# Altium integrated library Altium_Diode.IntLib: 16 symbols
Pins are listed as number, name and electrical type; pins without a type are passive.

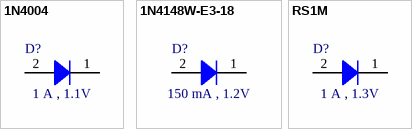
[diagram p0: symbols 1N4004 to RS1M]

## 1N4004
designator D?, comment 1 A , 1.1V
Rectifiers 1N4004 1A 400V; Manufacturer: Rectron; Manufacturer Part Number: FM4004-W; Max Surge Current: 30 A; Recovery Time: 2.5 us; Reverse Current: 500 nA; Type: Rectifiers; Supplier 1 URL: https://www.mouser.vn/ProductDetail/Rectron/FM4004-W?qs=Iw9Ubr57Px3IHNH1bE4l9w%3D%3D; Supplier 2 URL: https://www.digikey.com/en/products/detail/rectron-usa/fm4004-w/12337488; Supplier 3 URL: https://www.thegioiic.com/1n4004-m4-diode-chinh-luu-1a-400v; Value: 1 A , 1.1V; Forward Current: 1 A; Forward Voltage: 1.1 V; Maximum Diode Capacitance: N/A; Peak Reverse Voltage: 400 V; Power Dissipation: N/A; Supplier 1: Mouser; Supplier 1 Part Number: 583-FM4004; Supplier 2: Digi-Key; Supplier 2 Part Number: 2516-FM4004-WTR-ND; Supplier 3: thegioiic; Supplier 3 Part Number: 1N4004-M4; Mount: SMD/SMT; Operating Temperature Max: + 85 C; Operating Temperature Min: - 40 C; Package / Case: SMX; ComponentLink1Description: Datasheet; ComponentLink1URL: https://www.mouser.vn/datasheet/2/345/fm4001_fm4007-1113844.pdf; Packaging: Tape and Reel; LCSC Part #: C727080
footprint SMA (DO-214AC) (Molded Diode, 2-Leads, Body 4.25x2.67mm, IPC Medium Density)
pins: 1 K, 2 A

## 1N4148W-E3-18
designator D?, comment 150 mA , 1.2V
Diodes - General Purpose, Power, Switching 100 Volt 500mA 4ns; Manufacturer: Vishay Semiconductors; Manufacturer Part Number: 1N4148W-E3-18; Type: Rectifiers; Forward Current: 150 mA; Maximum Diode Capacitance: 4 pF; Max Surge Current: 2 A; Peak Reverse Voltage: 100 V; Power Dissipation: 350 mW; Reverse Current: 5 uA; Supplier 1 URL: https://www.mouser.vn/ProductDetail/Vishay-Semiconductors/1N4148W-E3-18?qs=bTzheeSci6Q3YaBSBujcdg%3D%3D; Supplier 2 URL: https://www.digikey.com/en/products/detail/vishay-general-semiconductor-diodes-division/1n4148w-e3-18/3104163; Supplier 3 URL: https://www.thegioiic.com/1n4148w-e3-18-diode-gen-purp-75v-150ma-sod123; Value: 150 mA , 1.2V; Forward Voltage: 1.2 V; Recovery Time: 4 ns; Supplier 1: Mouser; Supplier 1 Part Number: 78-1N4148W-E3-18; Supplier 2: Digi-Key; Supplier 2 Part Number: 1N4148W-E3-18TR-ND; Supplier 3: thegioiic; Supplier 3 Part Number: 1N4148W-E3-18; Mount: SMD/SMT; Operating Temperature Max: + 85 C; Operating Temperature Min: - 40 C; Package / Case: SOD-123; ComponentLink1Description: Datasheet; ComponentLink1URL: https://www.vishay.com/doc?85748; Packaging: Tape and Reel; LCSC Part #: N/A
footprint SOD-123 (SOIC, 2-Leads, Body 1.55x2.70mm, Pitch 1.27mm, IPC Medium Density)
pins: 1 K, 2 A

## RS1M
designator D?, comment 1 A , 1.3V
Rectifiers 1000V 1a Fast Rect SMa; Manufacturer: onsemi; Manufacturer Part Number: RS1M; Max Surge Current: 30 A; Peak Reverse Voltage: 1 kV; Power Dissipation: 1.19 W; Recovery Time: 500 ns; Reverse Current: 5 uA; Type: Rectifiers; Supplier 1 URL: https://www.mouser.vn/ProductDetail/onsemi-Fairchild/RS1M?qs=e%2FRqmsgwm9icSRWI%2F467wA%3D%3D; Supplier 2 URL: https://www.digikey.com/en/products/detail/onsemi/rs1m/1048919; Supplier 3 URL: https://www.thegioiic.com/fr107-rs1m-sma-diode-chinh-luu-1a-1kv; Value: 1 A , 1.3V; Forward Current: 1 A; Forward Voltage: 1.3 V; Maximum Diode Capacitance: N/A; Supplier 1: Mouser; Supplier 1 Part Number: 512-RS1M; Supplier 2: Digi-Key; Supplier 2 Part Number: RS1MFSTR-ND; Supplier 3: thegioiic; Supplier 3 Part Number: FR107 RS1M; Mount: SMD/SMT; Operating Temperature Max: + 85 C; Operating Temperature Min: - 40 C; Package / Case: DO-214AC; ComponentLink1Description: Datasheet; ComponentLink1URL: https://www.mouser.vn/datasheet/2/308/1/RS1M_D-2320127.pdf; Packaging: Tape and Reel; LCSC Part #: N/A
footprint SMA (DO-214AC) (Molded Diode, 2-Leads, Body 4.25x2.67mm, IPC Medium Density)
pins: 1 K, 2 A


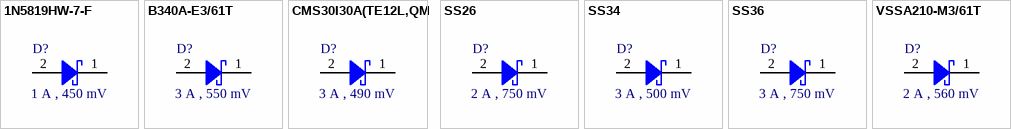
[diagram p1: symbols 1N5819HW-7-F to VSSA210-M3/61T]

## 1N5819HW-7-F
designator D?, comment 1 A , 450 mV
Schottky Diodes & Rectifiers 2.0 Amp 60 Volt 40 Amp IFSM; Manufacturer Part Number: 1N5819HW-7-F; Forward Current: 1 A; Forward Voltage: 450 mV; Max Surge Current: 25 A; Peak Reverse Voltage: 40 V; Power Dissipation: 450 mW; Reverse Current: 1 mA; Type: Schottky; Supplier 1 URL: https://www.mouser.com/ProductDetail/Diodes-Incorporated/1N5819HW-7-F?qs=NQ47qNm99eDyWTEd07miYA%3D%3D; Supplier 2 URL: https://www.digikey.com/en/products/detail/diodes-incorporated/1n5819hw-7-f/814970; Supplier 3 URL: N/A; Value: 1 A , 450 mV; Manufacturer: DIODES; Maximum Diode Capacitance: N/A; Recovery Time: N/A; Supplier 1: Mouser; Supplier 1 Part Number: 621-1N5819HW-F; Supplier 2: Digi-Key; Supplier 2 Part Number: 1N5819HW-FDITR-ND; Supplier 3: thegioiic; Supplier 3 Part Number: N/A; Mount: SMD/SMT; Operating Temperature Max: + 125 C; Operating Temperature Min: - 65 C; Package / Case: SOD-123-2; Packaging: Tape and Reel; ComponentLink1Description: Datasheet; ComponentLink1URL: https://www.vishay.com/doc?89055; LCSC Part #: C82544
footprint SOD-123 (SOIC, 2-Leads, Body 1.55x2.70mm, Pitch 1.27mm, IPC Medium Density)
pins: 1 K, 2 A

## B340A-E3/61T
designator D?, comment 3 A , 550 mV
Schottky Diodes & Rectifiers 3.0 Amp 40 Volt; Manufacturer: Vishay Semiconductors; Manufacturer Part Number: B340A-E3/61T; Forward Current: 3 A; Forward Voltage: 550 mV; Max Surge Current: 65 A; Peak Reverse Voltage: 40 V; Reverse Current: 500 uA; Type: Schottky; Supplier 1 URL: https://www.mouser.com/ProductDetail/Vishay-General-Semiconductor/B340A-E3-61T?qs=tdXsjSi%2FIMY4I2dGLbnpzg%3D%3D; Supplier 2 URL: https://www.digikey.com/en/products/detail/vishay-general-semiconductor-diodes-division/b340a-e3-61t/2149679; Supplier 3 URL: N/A; Value: 3 A , 550 mV; Maximum Diode Capacitance: N/A; Power Dissipation: N/A; Recovery Time: N/A; Supplier 1: Mouser; Supplier 1 Part Number: 625-BD340A-E3/61T; Supplier 2: Digi-Key; Supplier 2 Part Number: B340A-E3/61TGITR-ND; Supplier 3: thegioiic; Supplier 3 Part Number: N/A; Mount: SMD/SMT; Operating Temperature Max: + 150 C; Operating Temperature Min: - 65 C; Package / Case: SMA (DO-214AC); Packaging: Tape and Reel; ComponentLink1Description: Datasheet; ComponentLink1URL: https://www.vishay.com/docs/88896/b330la.pdf; LCSC Part #: C15570
footprint SMA (DO-214AC) (Molded Diode, 2-Leads, Body 4.25x2.67mm, IPC Medium Density)
pins: 1 K, 2 A

## CMS30I30A(TE12L,QM
designator D?, comment 3 A , 490 mV
Schottky Diodes & Rectifiers 30V Vrrm 3.0A IF 0.49V VFM 30A IFSM; Manufacturer: Toshiba; Manufacturer Part Number: CMS30I30A(TE12L,QM; Forward Current: 3 A; Forward Voltage: 490 mV; Reverse Current: 100 uA; Type: Schottky; Supplier 1 URL: https://www.mouser.vn/ProductDetail/Vishay-General-Semiconductor/SS26S-E3-5AT?qs=tWM4QuTcS4UlRJgxN3V1tg%3D%3D; Supplier 2 URL: N/A; Supplier 3 URL: N/A; Value: 3 A , 490 mV; Maximum Diode Capacitance: N/A; Max Surge Current: 30 A; Peak Reverse Voltage: 30 V; Power Dissipation: N/A; Recovery Time: N/A; Supplier 1: Mouser; Supplier 1 Part Number: 757-CMS30I30ATE12LQM; Supplier 2: Digi-Key; Supplier 2 Part Number: N/A; Supplier 3: thegioiic; Supplier 3 Part Number: N/A; Mount: SMD/SMT; Operating Temperature Max: + 85 C; Operating Temperature Min: - 40 C; Package / Case: SMA (DO-214AC); Packaging: Tape and Reel; ComponentLink1Description: Datasheet; ComponentLink1URL: https://www.vishay.com/doc?89055; LCSC Part #: C2762688
footprint 3-4E1S (SODFL, 2-Leads, Body 2.40x4.70mm, IPC Medium Density)
pins: 1 K, 2 A

## SS26
designator D?, comment 2 A , 750 mV
Schottky Diodes & Rectifiers 2.0 Amp 60 Volt 40 Amp IFSM; Manufacturer: Vishay Semiconductors; Manufacturer Part Number: SS26S-E3/5AT; Forward Current: 2 A; Forward Voltage: 750 mV; Max Surge Current: 40 A; Peak Reverse Voltage: 60 V; Reverse Current: 200 uA; Type: Schottky; Supplier 1 URL: https://www.mouser.vn/ProductDetail/Vishay-General-Semiconductor/SS26S-E3-5AT?qs=tWM4QuTcS4UlRJgxN3V1tg%3D%3D; Supplier 2 URL: https://www.digikey.com/en/products/detail/vishay-general-semiconductor-diodes-division/ss26s-e3-5at/2148827; Supplier 3 URL: https://www.thegioiic.com/ss26-smb-diode-schottky-2a; Value: 2 A , 750 mV; Maximum Diode Capacitance: N/A; Power Dissipation: N/A; Recovery Time: N/A; Supplier 1: Mouser; Supplier 1 Part Number: 625-SS26S-E3/5AT; Supplier 2: Digi-Key; Supplier 2 Part Number: SS26S-E3/5ATGITR-ND; Supplier 3: thegioiic; Supplier 3 Part Number: SS26; Mount: SMD/SMT; Operating Temperature Max: + 85 C; Operating Temperature Min: - 40 C; Package / Case: SMA (DO-214AC); Packaging: Tape and Reel; ComponentLink1Description: Datasheet; ComponentLink1URL: https://www.vishay.com/doc?89055; LCSC Part #: C5350986
footprint SMA (DO-214AC) (Molded Diode, 2-Leads, Body 4.25x2.67mm, IPC Medium Density)
pins: 1 K, 2 A

## SS34
designator D?, comment 3 A , 500 mV
Schottky Diodes & Rectifiers 3.0 Amp 40 Volt; Manufacturer: Vishay Semiconductors; Manufacturer Part Number: SS34-E3/57T; Forward Current: 3 A; Forward Voltage: 500 mV; Max Surge Current: 100 A; Peak Reverse Voltage: 40 V; Reverse Current: 500 uA; Type: Schottky; Supplier 1 URL: https://www.mouser.vn/ProductDetail/Vishay-General-Semiconductor/SS34-E3-57T?qs=x2jpVgRnAtMC3f38kYWnRw%3D%3D; Supplier 2 URL: https://www.digikey.com/en/products/detail/vishay-general-semiconductor-diodes-division/ss34-e3-57t/1091554; Supplier 3 URL: https://www.thegioiic.com/ss34-sma-diode-schottky-3a; Value: 3 A , 500 mV; Maximum Diode Capacitance: N/A; Power Dissipation: N/A; Recovery Time: N/A; Supplier 1: Mouser; Supplier 1 Part Number: 625-SS34-E3; Supplier 2: Digi-Key; Supplier 2 Part Number: SS34-E3/57TGITR-ND; Supplier 3: thegioiic; Supplier 3 Part Number: SS34; Mount: SMD/SMT; Operating Temperature Max: + 85 C; Operating Temperature Min: - 40 C; Package / Case: SMC (DO-214AB); Packaging: Tape and Reel; ComponentLink1Description: Datasheet; ComponentLink1URL: https://www.vishay.com/doc?88751; LCSC Part #: C3008890
footprint SMC (DO-214AB) (Molded Diode, 2-Leads, Body 6.85x5.91mm, IPC Medium Density)
pins: 1 K, 2 A

## SS36
designator D?, comment 3 A , 750 mV
Schottky Diodes & Rectifiers 3.0 Amp 60 Volt; Manufacturer: Vishay Semiconductors; Manufacturer Part Number: SS36-E3/57T; Forward Current: 3 A; Forward Voltage: 750 mV; Max Surge Current: 100 A; Peak Reverse Voltage: 60 V; Reverse Current: 500 uA; Type: Schottky; Supplier 1 URL: https://www.mouser.vn/ProductDetail/Vishay-General-Semiconductor/SS36-E3-57T?qs=x2jpVgRnAtNdHfPfldPWaQ%3D%3D; Supplier 2 URL: https://www.digikey.com/en/products/detail/vishay-general-semiconductor-diodes-division/ss36-e3-57t/1091555; Supplier 3 URL: https://www.thegioiic.com/ss36-sma-diode-schottky-3a; Value: 3 A , 750 mV; Maximum Diode Capacitance: N/A; Power Dissipation: N/A; Recovery Time: N/A; Supplier 1: Mouser; Supplier 1 Part Number: 625-SS36-E3; Supplier 2: Digi-Key; Supplier 2 Part Number: SS36-E3/57TGITR-ND; Supplier 3: thegioiic; Supplier 3 Part Number: SS36; Mount: SMD/SMT; Operating Temperature Max: + 85 C; Operating Temperature Min: - 40 C; Package / Case: SMC (DO-214AB); Packaging: Tape and Reel; ComponentLink1Description: Datasheet; ComponentLink1URL: https://www.vishay.com/doc?88751; LCSC Part #: N/A
footprint SMC (DO-214AB) (Molded Diode, 2-Leads, Body 6.85x5.91mm, IPC Medium Density)
pins: 1 K, 2 A

## VSSA210-M3/61T
designator D?, comment 2 A , 560 mV
Schottky Diodes & Rectifiers 2.0 Amp 100 Volt 60 Amp IFSM; Manufacturer: Vishay Semiconductors; Manufacturer Part Number: VSSA210-M3/61T; Forward Current: 2 A; Forward Voltage: 560 mV; Max Surge Current: 60 A; Peak Reverse Voltage: 100 V; Reverse Current: 200 uA; Type: Schottky; Supplier 1 URL: https://www.mouser.vn/ProductDetail/Vishay-General-Semiconductor/VSSA210-M3-61T?qs=sGAEpiMZZMtbRapU8LlZDxfz4h8DymYv9GXKqyqJb7M%3D; Supplier 2 URL: https://www.digikey.com/en/products/detail/vishay-general-semiconductor-diodes-division/vssa210-m3-61t/4934084; Supplier 3 URL: N/A; Value: 2 A , 560 mV; Maximum Diode Capacitance: N/A; Power Dissipation: N/A; Recovery Time: N/A; Supplier 1: Mouser; Supplier 1 Part Number: 78-VSSA210-M361T; Supplier 2: Digi-Key; Supplier 2 Part Number: VSSA210-M3/61TGITR-ND; Supplier 3: thegioiic; Supplier 3 Part Number: N/A; Mount: SMD/SMT; Operating Temperature Max: + 85 C; Operating Temperature Min: - 40 C; Package / Case: SMA (DO-214AC); Packaging: Tape and Reel; ComponentLink1Description: Datasheet; ComponentLink1URL: https://www.vishay.com/doc?89055; LCSC Part #: C3757345
footprint SMA (DO-214AC) (Molded Diode, 2-Leads, Body 4.25x2.67mm, IPC Medium Density)
pins: 1 K, 2 A


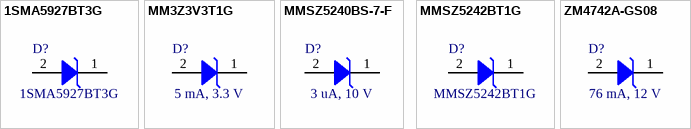
[diagram p2: symbols 1SMA5927BT3G to ZM4742A-GS08]

## 1SMA5927BT3G
designator D?
Zener Diodes 12V 1.5W; Manufacturer: onsemi; Zener Current: 125 mA; Power Dissipation: 500 mW; Reverse Current: 500 nA; Voltage Tolerance: 5 %; Zener Impedance: 30 Ohms; Type: Zener; Supplier 1 URL: https://www.mouser.vn/ProductDetail/onsemi/1SMA5927BT3G?qs=y2kkmE52mdMhTuIaEBFoKA%3D%3D; Supplier 2 URL: N/A; Supplier 3 URL: N/A; Value: 1SMA5927BT3G; Maximum Reverse Leakage Current: 500 nA; Zener Voltage: 12 V; Manufacturer Part Number: 1SMA5927BT3G; Supplier 1: Mouser; Supplier 1 Part Number: 863-1SMA5927BT3G; Supplier 2: Digi-Key; Supplier 2 Part Number: N/A; Supplier 3: thegioiic; Supplier 3 Part Number: N/A; Mount: SMD/SMT; Operating Temperature Max: + 150 C; Operating Temperature Min: - 55 C; Package / Case: SMA; Packaging: Tape and Reel; ComponentLink1Description: Datasheet; ComponentLink1URL: https://www.onsemi.com/PowerSolutions/product.do?id=1SMA5927BT3G; LCSC Part #: C33754
footprint SMA (DO-214AC) (Molded Diode, 2-Leads, Body 4.25x2.67mm, IPC Medium Density)
pins: 1 K, 2 A

## MM3Z3V3T1G
designator D?, comment 5 mA, 3.3 V
Zener Diodes 3.3V 300mW; Manufacturer: onsemi; Manufacturer Part Number: MM3Z3V3T1G; Zener Current: 5 uA; Reverse Current: 5 mA; Voltage Tolerance: 5 %; Zener Impedance: 95 Ohms; Type: Zener; Supplier 1 URL: https://www.mouser.com/ProductDetail/onsemi/MM3Z3V3T1G?qs=HVbQlW5zcXVv6KQ4meaZ3g%3D%3D; Supplier 2 URL: N/A; Supplier 3 URL: N/A; Value: 5 mA, 3.3 V; Power Dissipation: 300 mW; Maximum Reverse Leakage Current: 5 uA; Zener Voltage: 3.3 V; Supplier 1: Mouser; Supplier 1 Part Number: 863-MM3Z3V3T1G; Supplier 2: Digi-Key; Supplier 2 Part Number: N/A; Supplier 3: thegioiic; Supplier 3 Part Number: N/A; Mount: SMD/SMT; Operating Temperature Max: + 150 C; Operating Temperature Min: - 65 C; Package / Case: SOD-323; Packaging: Tape and Reel; ComponentLink1Description: Datasheet; ComponentLink1URL: https://www.vishay.com/doc?85786; LCSC Part #: C75073
footprint SOD-323 (SOIC, 2-Leads, Body 1.25x1.70mm, Pitch 1.27mm, IPC Medium Density)
pins: 1 K, 2 A

## MMSZ5240BS-7-F
designator D?, comment 3 uA, 10 V
Independent 9.5V~10.5V 200mW 10V SOD-323 Zener Diodes ROHS; Manufacturer: Diodes Incorporated; Manufacturer Part Number: MMSZ5240BS-7-F; Zener Current: 3 uA; Voltage Tolerance: 5 %; Zener Impedance: 17 Ohms; Type: Zener; Supplier 1 URL: https://www.mouser.vn/ProductDetail/Diodes-Incorporated/MMSZ5240BS-7-F?qs=X900LpqWd1Gp1t6j3UaMUg%3D%3D; Supplier 2 URL: N/A; Supplier 3 URL: N/A; Value: 3 uA, 10 V; Power Dissipation: 200 mW; Reverse Current: 3 uA; Maximum Reverse Leakage Current: 3 uA; Zener Voltage: 10 V; Supplier 1: Mouser; Supplier 1 Part Number: 621-MMSZ5240BS-F; Supplier 2: Digi-Key; Supplier 2 Part Number: N/A; Supplier 3: thegioiic; Supplier 3 Part Number: N/A; Mount: SMD/SMT; Operating Temperature Max: + 150 C; Operating Temperature Min: - 65 C; Package / Case: SOD-323-2; Packaging: Tape and Reel; ComponentLink1Description: Datasheet; ComponentLink1URL: https://www.vishay.com/doc?85786; LCSC Part #: C67528
footprint SOD-323 (SOIC, 2-Leads, Body 1.25x1.70mm, Pitch 1.27mm, IPC Medium Density)
pins: 1 K, 2 A

## MMSZ5242BT1G
designator D?
Zener Diodes 12V 500mW; Manufacturer: onsemi; Zener Current: 1 uA; Voltage Tolerance: 5 %; Zener Impedance: 30 Ohms; Type: Zener; Supplier 1 URL: https://www.mouser.vn/ProductDetail/onsemi/MMSZ5242BT1G?qs=P4IOph%252Bbot86vh9xsqpsdw%3D%3D; Supplier 2 URL: N/A; Supplier 3 URL: N/A; Value: MMSZ5242BT1G; Power Dissipation: 500 mW; Reverse Current: 1 uA; Maximum Reverse Leakage Current: 1 uA; Zener Voltage: 12 V; Manufacturer Part Number: MMSZ5242BT1G; Supplier 1: Mouser; Supplier 1 Part Number: 863-MMSZ5242BT1G; Supplier 2: Digi-Key; Supplier 2 Part Number: N/A; Supplier 3: thegioiic; Supplier 3 Part Number: N/A; Mount: SMD/SMT; Operating Temperature Max: + 150 C; Operating Temperature Min: - 55 C; Package / Case: SOD-123-2; Packaging: Tape and Reel; ComponentLink1Description: Datasheet; ComponentLink1URL: https://www.onsemi.com/PowerSolutions/product.do?id=MMSZ5242BT1G; LCSC Part #: C82050
footprint SOD-123 (SOIC, 2-Leads, Body 1.55x2.70mm, Pitch 1.27mm, IPC Medium Density)
pins: 1 K, 2 A

## ZM4742A-GS08
designator D?, comment 76 mA, 12 V
Zener Diodes 12 Volt 1 Watt 5%; Manufacturer: Vishay Semiconductors; Manufacturer Part Number: ZM4742A-GS08; Zener Current: 76 mA; Power Dissipation: 1 W; Reverse Current: 5 uA; Zener Impedance: 9 Ohms; Zener Voltage: 12 V; Type: Zener; Supplier 1 URL: https://www.mouser.vn/ProductDetail/Vishay-Semiconductors/ZM4742A-GS08?qs=8Acm1RElxHK1TOeooqKC1w%3D%3D; Supplier 2 URL: https://www.digikey.com/en/products/detail/vishay-general-semiconductor-diodes-division/zm4742a-gs08/3104287; Supplier 3 URL: https://www.thegioiic.com/zm4742a-gs08-diode-zener-12v-1w-smd; Value: 76 mA, 12 V; Maximum Reverse Leakage Current: 5 uA; Voltage Tolerance: 5 %; Supplier 1: Mouser; Supplier 1 Part Number: 625-ZM4742A; Supplier 2: Digi-Key; Supplier 2 Part Number: ZM4742A-GS08TR-ND; Supplier 3: thegioiic; Supplier 3 Part Number: ZM4742A-GS08; Mount: SMD/SMT; Operating Temperature Max: + 85 C; Operating Temperature Min: - 40 C; Package / Case: DO-213AB-2; Packaging: Tape and Reel; ComponentLink1Description: Datasheet; ComponentLink1URL: https://www.vishay.com/doc?85786; LCSC Part #: C74494
footprint DO-213AB-2 (MELF Diode, 2-Leads, Body 5.00x2.50mm, IPC Medium Density)
pins: 1 K, 2 A


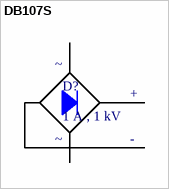
[diagram p3: symbol DB107S]

## DB107S
designator D?, comment 1 A , 1 kV
Bridge Rectifiers 1A 1000V; Manufacturer: Rectron; Manufacturer Part Number: DB107S; Forward Voltage: 1.1 V; Max Surge Current: 40 A; Peak Reverse Voltage: 1 kV; Reverse Current: 5 uA; Forward Current: 1 A; Maximum Diode Capacitance: N/A; Power Dissipation: N/A; Recovery Time: N/A; Supplier 1: Mouser; Supplier 1 Part Number: 583-DB107S; Supplier 1 URL: https://www.mouser.com/ProductDetail/Rectron/DB107S?qs=G5AQjGfRJcJjPe5M2MA7ww%3D%3D; Supplier 2: Digi-Key; Supplier 2 Part Number: N/A; Supplier 2 URL: N/A; Supplier 3: thegioiic; Supplier 3 Part Number: DB107S; Supplier 3 URL: https://www.thegioiic.com/db107s-cau-chinh-luu-1kv-1a; Type: Bridge Rectifiers; Value: 1 A , 1 kV; Mount: SMD/SMT; Operating Temperature Max: + 85 C; Operating Temperature Min: - 40 C; Packaging: Tube; ComponentLink1Description: Datasheet; ComponentLink1URL: https://www.mouser.com/datasheet/2/345/db101s_1012s-17410.pdf; LCSC Part #: C5377
footprint DB107S (SOP, 4-Leads, Body 8.30x6.35mm, Pitch 5.10mm, IPC Medium Density)
pins: 1 ~, 2 ~, 3 +, 4 -